# EAGLE library part ATLAS_SCIENTIFIC_OEM (library ATLAS_SCIENTIFIC_OEM)
Atlas Scientific OEM Module https://www.atlas-scientific.com/ This library works for all v2.0 OEM Modules that follow 5x2 pin layout. Designed by AKstudios github.com/AKstudios
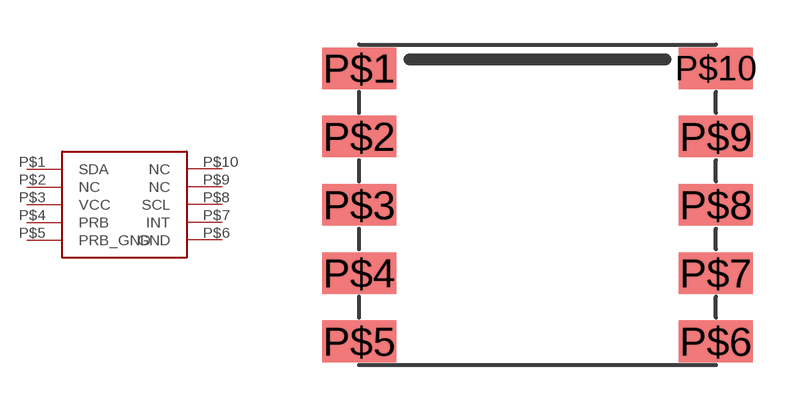
[diagram p0: symbol with the pads of ATLAS_SCIENTIFIC_OEM; footprint ATLAS_SCIENTIFIC_OEM]

Designator prefix -

## ATLAS_SCIENTIFIC_OEM  [ATLAS_SCIENTIFIC_OEM]
P$1  SDA
P$2  NC
P$3  VCC
P$4  PRB
P$5  PRB_GND
P$6  GND
P$7  INT
P$8  SCL
P$9  NC
P$10  NC

## Footprint ATLAS_SCIENTIFIC_OEM (pad centres in mm)
smd 2.5 x 1.4: P$1 0,9.9; P$2 0,7.6; P$3 0,5.3; P$4 0,3; P$5 0,0.7; P$6 12,0.7; P$7 12,3; P$8 12,5.3; P$9 12,7.6; P$10 12,9.9